# Altium footprint library bc95+sim.PcbLib: 1 footprints
Each footprint in its own frame and in the unit in brackets; x right, y up, seen from the top. Pads: shape width x height; smd on the part's side, far side on the other; paste and mask are expansions set on the pad; w line width, h text height; cw(c..) or ccw(c..) is an arc to the next point about the centre after c.
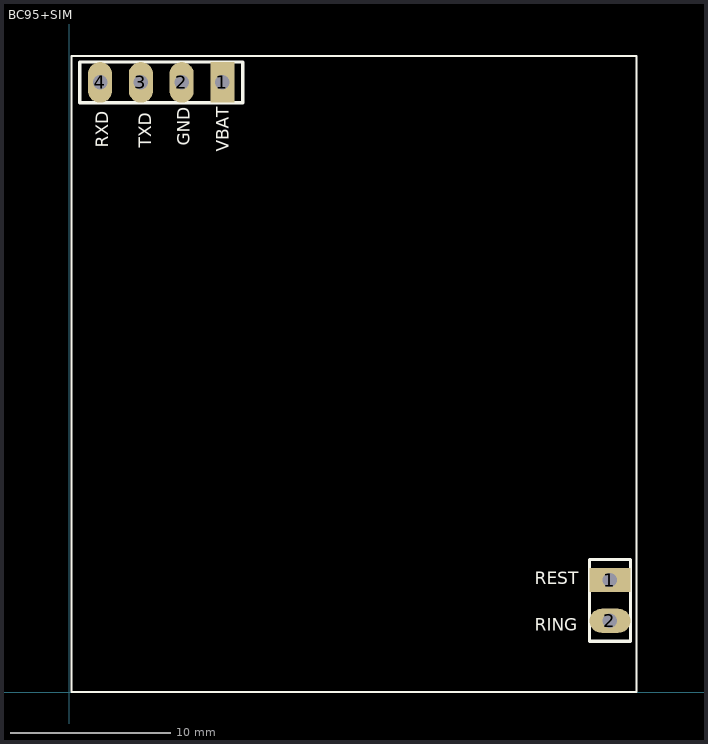
[diagram p0: the footprint, top view; thin cyan lines are the x and y axes]

## BC95+SIM [mm]
pads (6):
  rect 1.5x2.54 hole 0.9: 1(9.525,37.973)
  rect 2.54x1.5 hole 0.9: 1(33.655,6.985)
  oval 1.5x2.54 hole 0.9: 2(6.985,37.973) 3(4.445,37.973) 4(1.905,37.973)
  oval 2.54x1.5 hole 0.9: 2(33.655,4.445)
Bottom Layer:
  lines w0.254: 33.655,6.985 34.061,7.391
Top Overlay:
  lines w0.127: 0.127,0 35.306,0 35.306,39.624 0.127,39.624 0.127,0
  lines w0.2: 0.635,36.703 0.635,39.243 10.795,39.243 10.795,36.703 0.635,36.703 ; 32.385,3.175 32.385,8.255 34.925,8.255 34.925,3.175 32.385,3.175
  text "VBAT" at 9.906,33.655 h0.76
  text "GND" at 7.493,34.036 h0.76
  text "TXD" at 5.08,33.909 h0.76
  text "RXD" at 2.413,33.909 h0.76
  text "REST" at 28.956,6.731 h0.76
  text "RING" at 28.956,3.81 h0.76